# Altium footprint library Radial_10x20mm.PcbLib: 1 footprints
Each footprint in its own frame and in the unit in brackets; x right, y up, seen from the top. Pads: shape width x height; smd on the part's side, far side on the other; paste and mask are expansions set on the pad; w line width, h text height; cw(c..) or ccw(c..) is an arc to the next point about the centre after c.
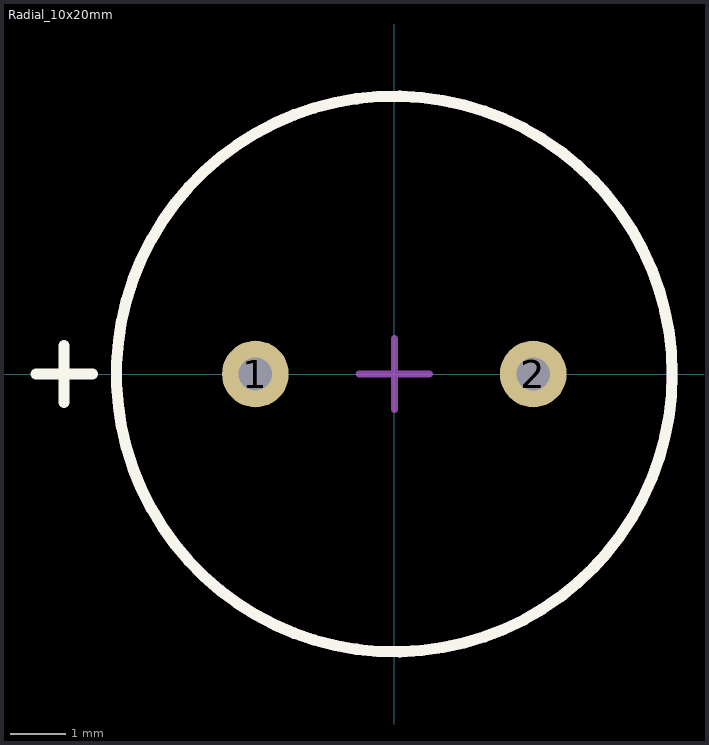
[diagram p0: the footprint, top view; thin cyan lines are the x and y axes]

## Radial_10x20mm [mm]
pads (2):
  round 1.2 hole 0.6 mask+0.051: 1(-2.5,0) 2(2.5,0)
Top Overlay:
  circle w0.2: c0,0 r5
  lines w0.2: -6.452,0 -5.436,0 ; -5.944,-0.508 -5.944,0.508
Mechanical 13:
  circle w0.2: c0,0 r5
Mechanical 15:
  lines w0.127: -0.635,0 0.635,0 ; 0,-0.635 0,0.635
3D body "EEU-FS2A121.STEP": height 20.01, standoff -16.99, extent -4.982,-4.997 5,4.997